# Altium footprint library KC2520C25.0000C2LE00.PcbLib: 1 footprints
Each footprint in its own frame and in the unit in brackets; x right, y up, seen from the top. Pads: shape width x height; smd on the part's side, far side on the other; paste and mask are expansions set on the pad; w line width, h text height; cw(c..) or ccw(c..) is an arc to the next point about the centre after c.
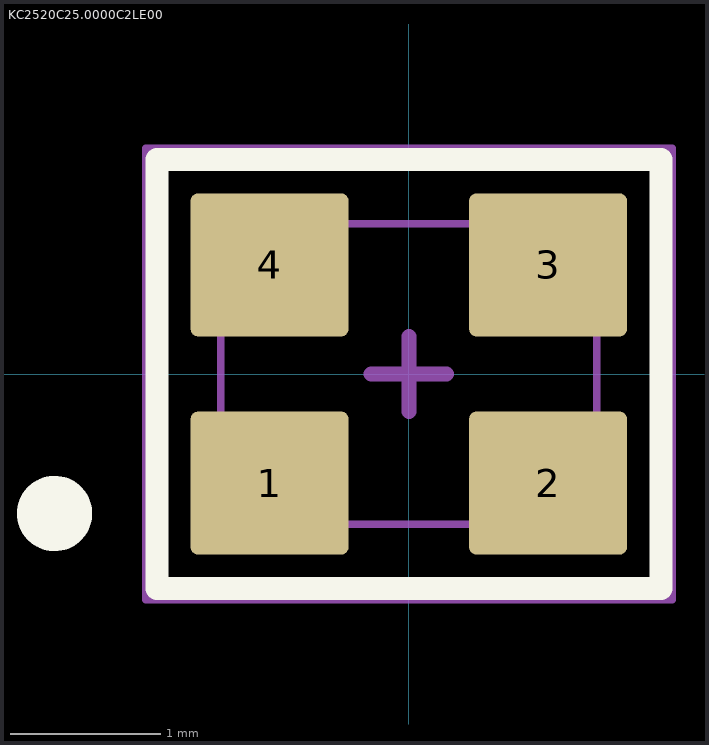
[diagram p0: the footprint, top view; thin cyan lines are the x and y axes]

## KC2520C25.0000C2LE00 [mm]
pads (4):
  rrect10% 1.05x0.95 smd: 1(-0.925,-0.725) 2(0.925,-0.725) 3(0.925,0.725) 4(-0.925,0.725)
Top Overlay:
  circle w0.25: c-2.354,-0.927 r0.125
  lines w0.152: -1.675,-1.425 1.675,-1.425 1.675,1.425 -1.675,1.425 -1.675,-1.425
Mechanical 13:
  lines w0.05: -1.25,-1 1.25,-1 1.25,1 -1.25,1 -1.25,-1
Mechanical 15:
  lines w0.05: -1.75,-1.5 1.75,-1.5 1.75,1.5 -1.75,1.5 -1.75,-1.5
  lines w0.1: -0.25,0 0.25,0 ; 0,-0.25 0,0.25
3D body "KC2520C25.0000C2LE00.STEP": height 0.75, standoff 0, extent -1.25,-1 1.25,1